# Altium footprint library B82477G4224M.PcbLib: 1 footprints
Each footprint in its own frame and in the unit in brackets; x right, y up, seen from the top. Pads: shape width x height; smd on the part's side, far side on the other; paste and mask are expansions set on the pad; w line width, h text height; cw(c..) or ccw(c..) is an arc to the next point about the centre after c.
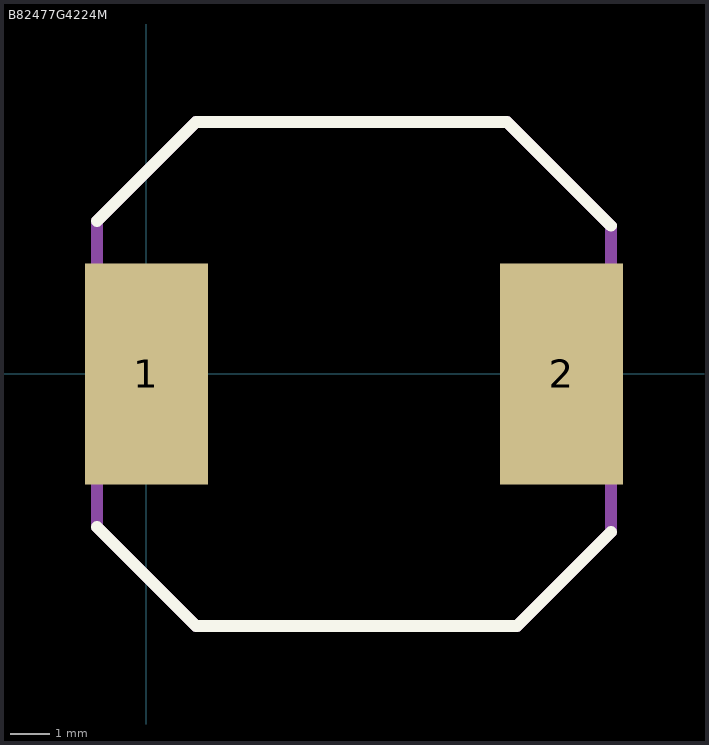
[diagram p0: the footprint, top view; thin cyan lines are the x and y axes]

## B82477G4224M [mm]
pads (2):
  rect 3.1x5.6 smd: 1(0,0) 2(10.5,0)
Top Overlay:
  lines w0.3: -1.25,-3.875 1.25,-6.375 9.375,-6.375 11.75,-4 ; -1.25,3.875 1.25,6.375 9.125,6.375 11.75,3.75
TopAssy:
  lines w0.3: -1.25,-3.875 1.25,-6.375 9.375,-6.375 11.75,-4 11.75,3.75 9.125,6.375 1.25,6.375 -1.25,3.875 -1.25,-3.875
3D body "User Library-b82477g4.step": height 8, standoff 0, extent -1.3,-6.4 11.5,6.4